# Altium integrated library 1N4742A.IntLib: 1 symbol
Pins are listed as number, name and electrical type; pins without a type are passive.

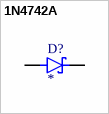
[diagram p0: symbol 1N4742A]

## 1N4742A
designator D?
Zener Diode 12 V 1 W Â±5% Through Hole DO-41; MF: ON; MP: 1N4742A; SnapEDA_Link: https://www.snapeda.com/parts/1N4742A/Onsemi/view-part/?ref=snap; Package: DO-41 ON Semiconductor; Value: *; Check_prices: https://www.snapeda.com/parts/1N4742A/Onsemi/view-part/?ref=eda
footprint DIOAD1036W78L463D272
pins: 1 K, 2 A